# Altium footprint library FootPrintLib_6.PcbLib: 588 footprints (part 30 of 37)
Each footprint in its own frame and in the unit in brackets; x right, y up, seen from the top. Pads: shape width x height; smd on the part's side, far side on the other; paste and mask are expansions set on the pad; w line width, h text height; cw(c..) or ccw(c..) is an arc to the next point about the centre after c.
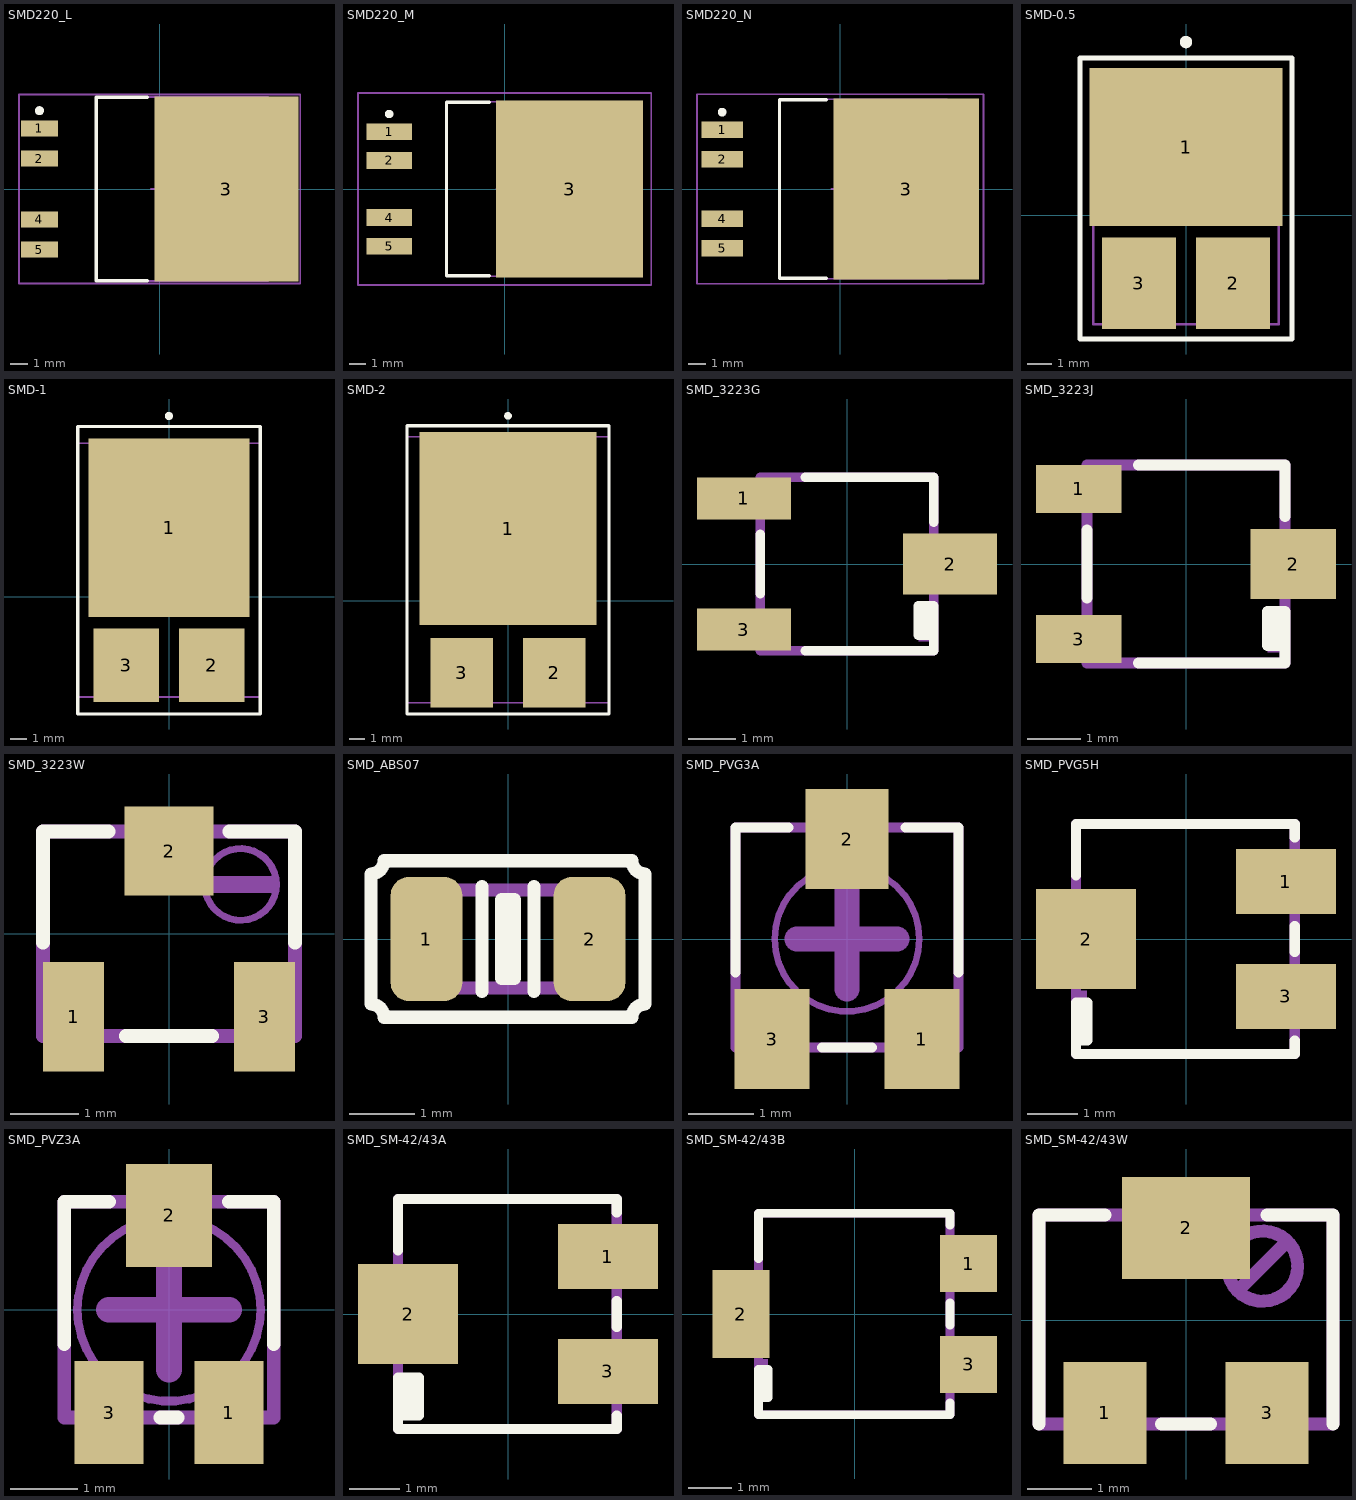
[diagram p29: the footprints below, top view; thin cyan lines are the x and y axes]

## SMD220_L [mm] "D2-PAK, 6-Leads, Body 9.1x10.3mm, Pitch 1.7mm, Lead Span 14.9mm, IPC High Density"
height 4.55
pads (5):
  rect 2.1x0.9 smd: 1(-6.75,3.4) 2(-6.75,1.7) 4(-6.75,-1.7) 5(-6.75,-3.4)
  rect 8.1x10.4 smd: 3(3.75,0)
Top Overlay:
  circle w0.25: c-6.75,4.4 r0.125
  lines w0.2: -0.7,-5.15 -3.55,-5.15 -3.55,5.15 -0.7,5.15
Mechanical 13:
  lines w0.1: -3.55,-5.175 6.1,-5.175 6.1,5.175 -3.55,5.175 -3.55,-5.175
Mechanical 15:
  lines w0.1: -0.5,0 0.5,0 ; 0,-0.5 0,0.5 ; -7.9,-5.3 7.9,-5.3 7.9,5.3 -7.9,5.3 -7.9,-5.3
3D body: height 4.55, standoff 0, extent -3.55,-5.175 6.1,5.175

## SMD220_M [mm] "D2-PAK, 6-Leads, Body 9.1x10.3mm, Pitch 1.7mm, Lead Span 14.9mm, IPC Low Density"
height 4.55
pads (5):
  rect 2.7x1 smd: 1(-6.85,3.4) 2(-6.85,1.7) 4(-6.85,-1.7) 5(-6.85,-3.4)
  rect 8.7x10.5 smd: 3(3.85,0)
Top Overlay:
  circle w0.25: c-6.85,4.45 r0.125
  lines w0.2: -0.9,-5.15 -3.45,-5.15 -3.45,5.15 -0.9,5.15
Mechanical 13:
  lines w0.1: -3.45,-5.175 -3.45,5.175 6.2,5.175 6.2,-5.175 -3.45,-5.175
Mechanical 15:
  lines w0.1: -0.5,0 0.5,0 ; 0,-0.5 0,0.5 ; -8.7,-5.7 -8.7,5.7 8.7,5.7 8.7,-5.7 -8.7,-5.7
3D body: height 4.55, standoff 0, extent -3.45,-5.175 6.2,5.175

## SMD220_N [mm] "D2-PAK, 6-Leads, Body 9.1x10.3mm, Pitch 1.7mm, Lead Span 14.9mm, IPC Medium Density"
height 4.55
pads (5):
  rect 2.4x0.95 smd: 1(-6.8,3.4) 2(-6.8,1.7) 4(-6.8,-1.7) 5(-6.8,-3.4)
  rect 8.4x10.45 smd: 3(3.8,0)
Top Overlay:
  circle w0.25: c-6.8,4.425 r0.125
  lines w0.2: -0.8,-5.15 -3.5,-5.15 -3.5,5.15 -0.8,5.15
Mechanical 13:
  lines w0.1: -3.5,-5.175 6.15,-5.175 6.15,5.175 -3.5,5.175 -3.5,-5.175
Mechanical 15:
  lines w0.1: -0.5,0 0.5,0 ; 0,-0.5 0,0.5 ; -8.25,-5.45 8.25,-5.45 8.25,5.45 -8.25,5.45 -8.25,-5.45
3D body: height 4.55, standoff 0, extent -3.5,-5.175 6.15,5.175

## SMD-0.5 [mm] "SM; 3 Leadless Terminals; Body 10.16 x 7.52 x 3.12 mm (LxWxH)"
height 3.12
pads (3):
  rect 7.8x6.4 smd: 1(0,2.76)
  rect 3x3.7 smd: 2(1.905,-2.76) 3(-1.905,-2.76)
Top Overlay:
  circle w0.25: c0,7.01 r0.125
  lines w0.2: -4.3,-5.01 4.3,-5.01 4.3,6.36 -4.3,6.36 -4.3,-5.01
Mechanical 13:
  lines w0.1: -3.76,-4.405 -3.76,5.755 3.76,5.755 3.76,-4.405 -3.76,-4.405
3D body: height 3.12, standoff 0, extent -3.759,-4.404 3.759,5.754

## SMD-1 [mm] "SM; 3 Leadless Terminals; Body 15.88 x 11.43 x 3.58 mm (LxWxH)"
height 3.58
pads (3):
  rect 10.1x11.2 smd: 1(0,4.305)
  rect 4.1x4.6 smd: 2(2.667,-4.305) 3(-2.667,-4.305)
Top Overlay:
  circle w0.25: c0,11.3 r0.125
  lines w0.2: -5.715,-7.35 5.715,-7.35 5.715,10.65 -5.715,10.65 -5.715,-7.35
Mechanical 13:
  lines w0.1: -5.715,-6.288 5.715,-6.288 5.715,9.587 -5.715,9.587 -5.715,-6.288
3D body: height 3.58, standoff 0, extent -5.714,-6.287 5.714,9.587

## SMD-2 [mm] "SM; 3 Leadless Terminals; Body 17.53 x 13.34 x 3.58 mm (LxWxH)"
height 3.58
pads (3):
  rect 11.7x12.7 smd: 1(0,4.75)
  rect 4.1x4.6 smd: 2(3.048,-4.75) 3(-3.048,-4.75)
Top Overlay:
  circle w0.25: c0,12.175 r0.125
  lines w0.2: -6.667,-7.475 6.667,-7.475 6.667,11.525 -6.667,11.525 -6.667,-7.475
Mechanical 13:
  lines w0.1: -6.667,-6.737 -6.667,10.787 6.667,10.787 6.667,-6.737 -6.667,-6.737
3D body: height 3.58, standoff 0, extent -6.667,-6.737 6.667,10.787

## SMD_3223G [mm]
pads (3):
  rect 2x0.9 smd: 1(-2.2,1.4) 3(-2.2,-1.4)
  rect 2x1.3 smd: 2(2.2,0)
Top Overlay:
  rectangle: 1.524,-1.524 1.85,-0.889
  lines w0.203: -1.85,-0.635 -1.85,0.635 ; -0.889,-1.85 1.85,-1.85 1.85,-0.889 1.524,-0.889 1.524,-1.524 1.85,-1.524 ; -0.889,1.85 1.85,1.85 1.85,0.889
Mechanical 1:
  rectangle: 1.925,-0.5 2.625,0.5
  rectangle: -2.65,-1.625 -1.925,-1.075
  rectangle: -2.65,1.075 -1.925,1.625
  rectangle: 1.524,-1.651 1.85,-0.889
  lines w0.203: -1.85,-1.85 -1.85,1.85 1.85,1.85 1.85,-1.85 -1.85,-1.85

## SMD_3223J [mm]
pads (3):
  rect 1.6x0.9 smd: 1(-2,1.4) 3(-2,-1.4)
  rect 1.6x1.3 smd: 2(2,0)
Top Overlay:
  rectangle: 1.524,-1.524 1.85,-0.889
  lines w0.203: -1.85,-0.635 -1.85,0.635 ; -0.889,-1.85 1.85,-1.85 1.85,-0.889 1.524,-0.889 1.524,-1.524 1.85,-1.524 ; -0.889,1.85 1.85,1.85 1.85,0.889
Mechanical 1:
  rectangle: 1.524,-1.651 1.85,-0.889
  lines w0.203: -1.85,-1.85 -1.85,1.85 1.85,1.85 1.85,-1.85 -1.85,-1.85

## SMD_3223W [mm]
pads (3):
  rect 0.9x1.6 smd: 1(-1.4,-1.215) 3(1.4,-1.215)
  rect 1.3x1.3 smd: 2(0,1.215)
Top Overlay:
  lines w0.203: -1.85,-0.127 -1.85,1.5 -0.889,1.5 ; -0.635,-1.5 0.635,-1.5 ; 0.889,1.5 1.85,1.5 1.85,-0.127
Mechanical 1:
  circle w0.102: c1.05,0.725 r0.526
  rectangle: 0.55,0.6 1.55,0.85
  lines w0.203: -1.85,-1.5 1.85,-1.5 1.85,1.5 -1.85,1.5 -1.85,-1.5

## SMD_ABS07 [mm]
pads (2):
  rrect50% 1.1x1.9 smd: 1(-1.25,0) 2(1.25,0)
Top Overlay:
  lines w0.2: -2.1,-1 cw(c-2.1,-1.2) -1.9,-1.2 1.9,-1.2 cw(c2.1,-1.2) 2.1,-1 2.1,1 cw(c2.1,1.2) 1.9,1.2 -1.9,1.2 cw(c-2.1,1.2) -2.1,1 -2.1,-1
  lines w0.203: -0.4,-0.8 -0.4,0.8 ; 0.4,-0.8 0.4,0.8 ; -0.1,-0.6 -0.1,0.6 0.1,0.6 0.1,-0.6 -0.1,-0.6
Mechanical 2:
  lines w0.203: -1.6,-0.75 -1.6,0.75 1.6,0.75 1.6,-0.75 -1.6,-0.75

## SMD_PVG3A [mil]
pads (3):
  rect 45x60 smd: 1(45,-60) 3(-45,-60)
  rect 50x60 smd: 2(0,60)
Top Overlay:
  lines w6: -67,-20 -67,67 -35,67 ; -15,-65 15,-65 ; 35,67 67,67 67,-20
Mechanical 1:
  circle w3.94: c0,0 r43.42
  lines w6: -67,-65 -67,67 66.93,67 66.93,-65 -67,-65
  lines w15: -30,0 30,0 ; 0,-30 0,30
3D body "SW3dPS-TRIMMER_PVG3A.STEP": height 78.74, standoff 0, extent -66.93,-70 66.93,71.73

## SMD_PVG5H [mm]
pads (3):
  rect 2x1.3 smd: 1(2,1.15) 3(2,-1.15)
  rect 2x2 smd: 2(-2,0)
Top Overlay:
  region: -1.975,-2.032 -1.975,-1.27 -2.3,-1.27 -2.3,-2.032
  lines w0.203: -2.2,-2.032 -1.975,-2.032 -1.975,-1.27 -2.2,-1.27 -2.2,-2.3 2.175,-2.3 2.175,-2.032 ; -2.2,1.27 -2.2,2.3 2.175,2.3 2.175,2.032 ; 2.175,-0.254 2.175,0.254
Mechanical 1:
  region: -1.975,-2.032 -1.975,-1.025 -2.3,-1.025 -2.3,-2.032
  region: -2.2,-0.65 -2.2,0.65 -2.5,0.65 -2.5,-0.65
  region: 2.5,0.875 2.5,1.675 2.2,1.675 2.2,0.875
  region: 2.5,-1.675 2.5,-0.875 2.2,-0.875 2.2,-1.675
  lines w0.203: -2.2,-2.3 2.175,-2.3 2.175,2.3 -2.2,2.3 -2.2,-2.3
3D body "User Library-PVG5H.STEP": height 3.7, standoff 0, extent -2.55,-2.4 2.55,2.4

## SMD_PVZ3A [mil]
pads (3):
  rect 40x60 smd: 1(35,-60) 3(-35,-60)
  rect 50x60 smd: 2(0,55)
Top Overlay:
  lines w8: -61.02,-20 -61.02,63 -35,63 ; -5,-62.84 5,-62.84 ; 35,63 61.02,63 61.02,-20
Mechanical 1:
  circle w5: c0,0 r53.41
  lines w8: -61.02,-62.84 61.02,-62.84 61.02,63 -61.02,63 -61.02,-62.84
  lines w15: -35,0 35,0 ; 0,-35 0,35
3D body "User Library-PVZ3A.STEP": height 76.77, standoff 0, extent -61.02,-72.84 61.02,72.44

## SMD_SM-42/43A [mm]
pads (3):
  rect 2x1.3 smd: 1(2,1.15) 3(2,-1.15)
  rect 2x2 smd: 2(-2,0)
Top Overlay:
  region: -1.778,-2.032 -1.778,-1.27 -2.3,-1.27 -2.3,-2.032
  lines w0.203: -2.2,-2.032 -1.778,-2.032 -1.778,-1.27 -2.2,-1.27 -2.2,-2.3 2.175,-2.3 2.175,-2.032 ; -2.2,1.27 -2.2,2.3 2.175,2.3 2.175,2.032 ; 2.175,-0.254 2.175,0.254
Mechanical 1:
  region: 2.5,-1.675 2.5,-0.875 2.2,-0.875 2.2,-1.675
  region: 2.5,0.875 2.5,1.675 2.2,1.675 2.2,0.875
  region: -2.2,-0.65 -2.2,0.65 -2.5,0.65 -2.5,-0.65
  lines w0.203: -2.2,-2.3 -2.2,2.3 2.175,2.3 2.175,-2.3 -2.2,-2.3

## SMD_SM-42/43B [mm]
pads (3):
  rect 1.3x1.3 smd: 1(2.6,1.15) 3(2.6,-1.15)
  rect 1.3x2 smd: 2(-2.6,0)
Top Overlay:
  region: -1.975,-1.905 -1.975,-1.27 -2.3,-1.27 -2.3,-1.905
  lines w0.203: -2.2,-1.905 -1.975,-1.905 -1.975,-1.27 -2.2,-1.27 -2.2,-2.3 2.175,-2.3 2.175,-2.032 ; -2.2,1.27 -2.2,2.3 2.175,2.3 2.175,2.032 ; 2.175,-0.254 2.175,0.254
Mechanical 1:
  region: -1.975,-1.925 -1.975,-1.025 -2.3,-1.025 -2.3,-1.925
  region: 3,-1.675 3,-0.875 2.2,-0.875 2.2,-1.675
  region: 3,0.875 3,1.675 2.2,1.675 2.2,0.875
  region: -2.2,-0.65 -2.2,0.65 -2.975,0.65 -2.975,-0.65
  lines w0.203: -2.2,-2.3 -2.2,2.3 2.175,2.3 2.175,-2.3 -2.2,-2.3
3D body "SW3dPS-Bourns 3314G potentiometer x1.STEP": height 2.55, standoff 0, extent -3.1,-2.5 3.1,2.5

## SMD_SM-42/43W [mm]
pads (3):
  rect 1.3x1.6 smd: 1(-1.27,-1.45) 3(1.27,-1.45)
  rect 2x1.6 smd: 2(0,1.45)
Top Overlay:
  lines w0.203: -2.3,-1.625 -2.3,1.65 -1.27,1.65 ; -0.381,-1.625 0.381,-1.625 ; 1.27,1.65 2.3,1.65 2.3,-1.625
Mechanical 1:
  circle w0.203: c1.2,0.85 r0.55
  rectangle: -1.675,-1.95 -0.875,-1.65
  rectangle: 0.875,-1.95 1.675,-1.65
  rectangle: -0.65,1.65 0.65,1.95
  lines w0.203: 0.875,0.525 1.525,1.175 ; -2.3,-1.625 2.3,-1.625 2.3,1.65 -2.3,1.65 -2.3,-1.625
3D body "SW3dPS-3224W.STEP": height 5.3, standoff 0, extent -2.4,-1.95 2.4,1.95